# EAGLE library part PCA9306-SPARKFUN (library abhishek)
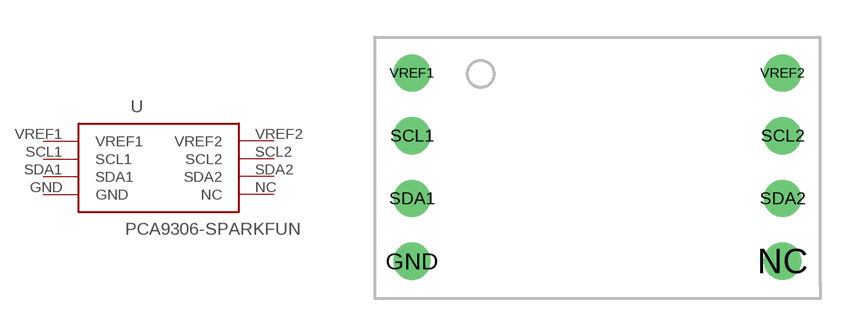
[diagram p0: symbol with the pads of PCA9306-BREAKOUT; footprint PCA9306-BREAKOUT]

Designator prefix -

## PCA9306-SPARKFUNBOARD  [PCA9306-BREAKOUT]
GND  GND
NC  NC
SCL1  SCL1
SCL2  SCL2
SDA1  SDA1
SDA2  SDA2
VREF1  VREF1
VREF2  VREF2

## Footprint PCA9306-BREAKOUT (pad centres in mm)
drill 1: GND -7.5,-5.08; NC 7.5,-5.08; SCL1 -7.5,0; SCL2 7.5,0; SDA1 -7.5,-2.54; SDA2 7.5,-2.54; VREF1 -7.5,2.54; VREF2 7.5,2.54